# Altium footprint library cap.PcbLib: 1 footprints
Each footprint in its own frame and in the unit in brackets; x right, y up, seen from the top. Pads: shape width x height; smd on the part's side, far side on the other; paste and mask are expansions set on the pad; w line width, h text height; cw(c..) or ccw(c..) is an arc to the next point about the centre after c.
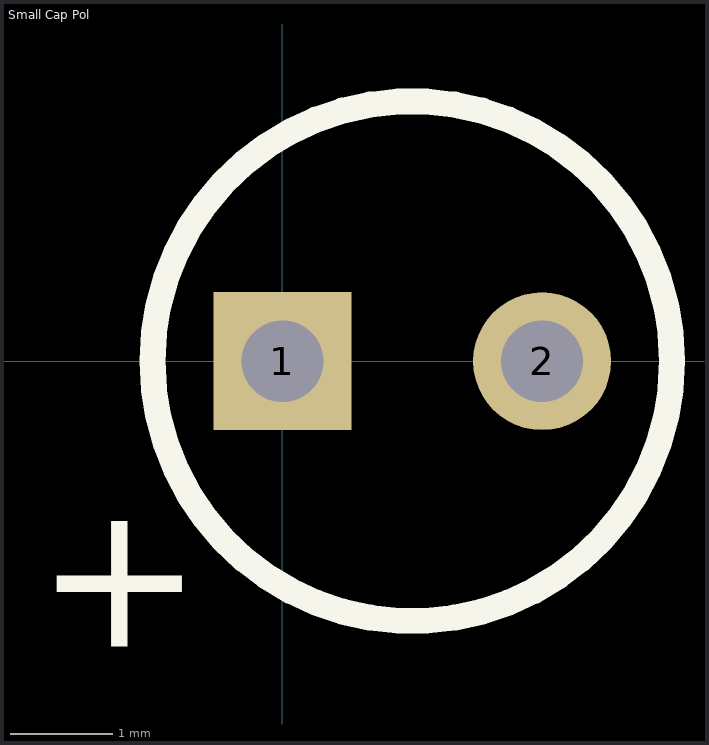
[diagram p0: the footprint, top view; thin cyan lines are the x and y axes]

## Small Cap Pol [mm] "Small Capacitor with Pol"
height 50
pads (2):
  rect 1.35x1.35 hole 0.8: 1(0,0)
  round 1.35 hole 0.8: 2(2.54,0)
Top Overlay:
  circle w0.254: c1.27,0 r2.543
  text "+" at -2.413,-2.794 h1.52